# Altium integrated library Analog Devices Data Converters Analog-to-Digital Converters.IntLib: 2400 symbols (part 146 of 338)
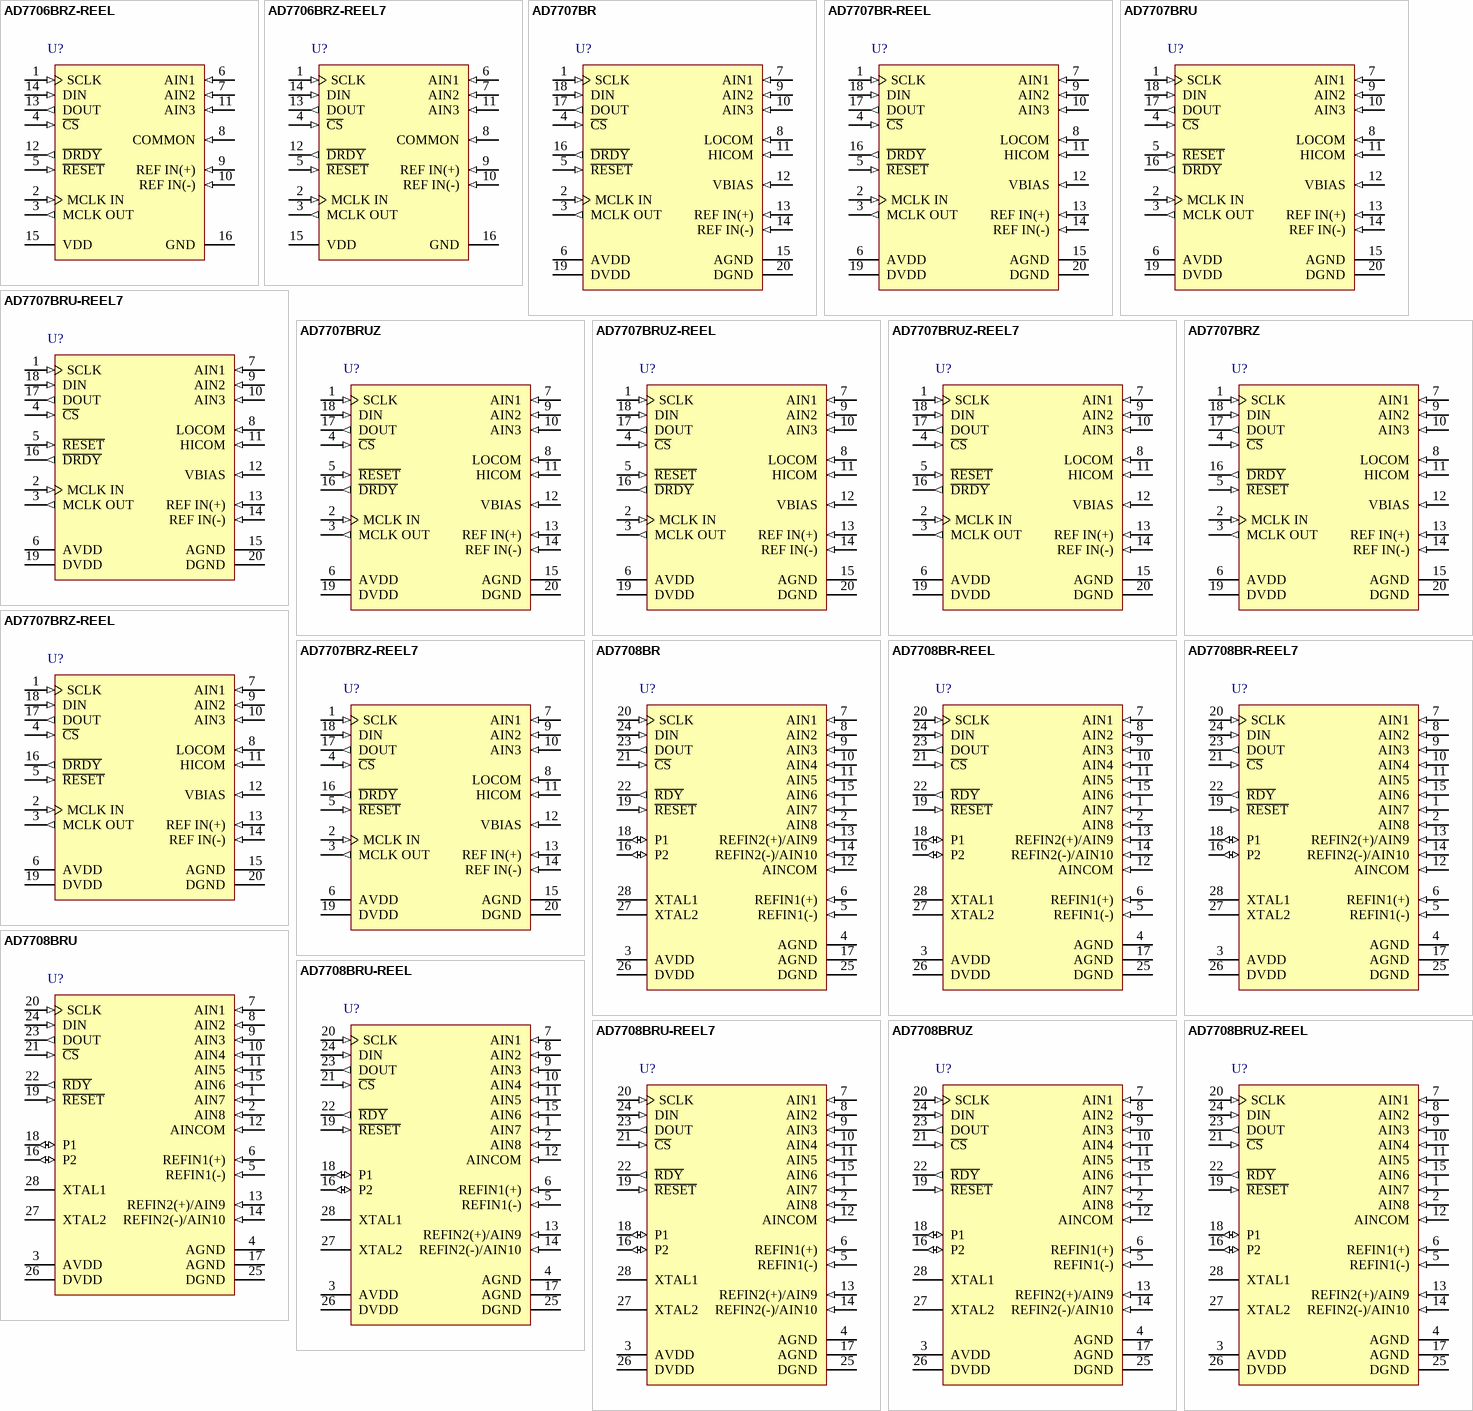
[diagram p338: symbols AD7706BRZ-REEL to AD7708BRUZ-REEL]

## AD7707BRZ
designator U?
3 Channel 16-Bit Sigma-Delta Analog-to-Digital Converter with Serial, SPI Interface, 1 mW, +/-10 V Input Range, 3 V / 5 V, 500SPS, -40 to +85 degC, RW-20, Pb-Free, Tube; Part Number: AD7707; Manufacturer: Analog Devices; Resolution (Bits): 16; Channels: 3; Throughput Rate (SPS): 500; Interface: Ser, SPI; DatasheetVersion: Rev.B; PackageVersion: 060706-A; PackageReference: RW-20; PackageDescription: 20-Lead Standard Small Outline Package [SOIC_W] Wide Body; RoHS: Y; Packing: Tube; Mounting Technology: Surface Mount; Code_JEDEC: MS-013-AC; ComponentLink1Description: Manufacturer URL; ComponentLink1URL: http://www.analog.com/en/index.html; ComponentLink2Description: Datasheet; ComponentLink2URL: http://www.analog.com/static/imported-files/data_sheets/AD7707.pdf; ComponentLink3Description: Package Specification; ComponentLink3URL: http://www.analog.com/static/imported-files/packages/233848RW_20.pdf; ComponentLink4Description: Product URL; ComponentLink4URL: http://www.analog.com/en/analog-to-digital-converters/ad-converters/ad7707/products/product.html
footprint RW-20_N (SOIC, 20-Leads, Body 12.8x7.5mm, Pitch 1.27mm, IPC Medium Density)
footprint RW-20_L (SOIC, 20-Leads, Body 12.8x7.5mm, Pitch 1.27mm, IPC High Density)
footprint RW-20_M (SOIC, 20-Leads, Body 12.8x7.5mm, Pitch 1.27mm, IPC Low Density)
pins: 1 SCLK (in) "Serial Clock, Schmitt-Triggered Logic Input. An external serial clock is applied to this input to access serial data from the AD7707. This serial clock can be a continuous clock with all data transmitted in a continuous (See Datasheet)", 2 MCLK IN (in) "Master Clock Signal for the Device. This can be provided in the form of a crystal/resonator or external clock. A crystal/resonator can be tied across the MCLK IN and MCLK OUT pins. Alternatively, the MCLK IN pin can be (See Datasheet)", 3 MCLK OUT (out) "When the master clock for the device is a crystal/resonator, the crystal/resonator is connected between MCLK IN and MCLK OUT. If an external clock is applied to MCLK IN, MCLK OUT provides an inverted clock signal. This clock (See Datasheet)", 4 ~{CS} (in) "Chip Select. This pin is an active low logic input used to select the AD7707. With this input hard-wired low, the AD7707 can operate in its 3-wire interface mode with SCLK, DIN, and DOUT used to interface to the device. C\S\ (See Datasheet)", 5 ~{RESET} (in) "Logic Input. Active low input that resets the control logic, interface logic, calibration coefficients, digital filter, and analog modulator of the part to power-on status.", 6 AVDD (power) "Analog Supply Voltage, 2.7 V to 5.25 V Operation.", 7 AIN1 (in) "Low Level Analog Input Channel 1. This is used as a pseudo differential input with respect to LOCOM.", 8 LOCOM (in) "Common Input for Low Level Input Channels. Analog inputs on AIN1 and AIN2 must be referenced to this input.", 9 AIN2 (in) "Low Level Analog Input Channel 2. This is used as a pseudo differential input with respect to LOCOM.", 10 AIN3 (in) "Single-Ended High Level Analog Input Channel with respect to HICOM.", 11 HICOM (in) "Common Input for High Level Input Channel. Analog input on AIN3 must be referenced to this input.", 12 VBIAS (in) "VBIAS is used to level shift the high level input channel signal. This signal is used to ensure that the AIN(+) and AIN(-) signals seen by the internal modulator are within its common-mode range. VBIAS is normally connected (See Datasheet)", 13 REF IN(+) (in) "Reference Input. Positive input of the differential reference input to the AD7707. The reference input is differential with the provision that REF IN(+) must be greater than REF IN(-). REF IN(+) can lie anywhere between AVDD (See Datasheet)", 14 REF IN(-) (in) "Reference Input. Negative input of the differential reference input to the AD7707. The REF IN(-) can lie anywhere between AVDD and AGND provided that REF IN(+) is greater than REF IN(-).", 15 AGND (power) "Analog Ground. Ground reference point for the AD7707’s internal analog circuitry.", 16 ~{DRDY} (out) "Logic Output. A logic low on this output indicates that a new output word is available from the AD7707 data register. The D\R\D\Y \pin returns high upon completion of a read operation of a full output word. If no data read (See Datasheet)", 17 DOUT (out) "Serial Data Output with Serial Data Being Read from the Output Shift Register on the Part. This output shift register can contain information from the setup register, communications register, clock register, or data (See Datasheet)", 18 DIN (in) "Serial Data Input with Serial Data Being Written to the Input Shift Register on the Part. Data from this input shift register is transferred to the setup register, clock register, or communications register, depending on the (See Datasheet)", 19 DVDD (power) "Digital Supply Voltage, 2.7 V to 5.25 V Operation.", 20 DGND (power) "Ground Reference Point for the AD7707’s Internal Digital Circuitry."

## AD7707BRZ-REEL
designator U?
3 Channel 16-Bit Sigma-Delta Analog-to-Digital Converter with Serial, SPI Interface, 1 mW, +/-10 V Input Range, 3 V / 5 V, 500SPS, -40 to +85 degC, RW-20, Pb-Free, Reel; Part Number: AD7707; Manufacturer: Analog Devices; Resolution (Bits): 16; Channels: 3; Throughput Rate (SPS): 500; Interface: Ser, SPI; DatasheetVersion: Rev.B; PackageVersion: 060706-A; PackageReference: RW-20; PackageDescription: 20-Lead Standard Small Outline Package [SOIC_W] Wide Body; RoHS: Y; Packing: Reel; Mounting Technology: Surface Mount; Code_JEDEC: MS-013-AC; ComponentLink1Description: Manufacturer URL; ComponentLink1URL: http://www.analog.com/en/index.html; ComponentLink2Description: Datasheet; ComponentLink2URL: http://www.analog.com/static/imported-files/data_sheets/AD7707.pdf; ComponentLink3Description: Package Specification; ComponentLink3URL: http://www.analog.com/static/imported-files/packages/233848RW_20.pdf; ComponentLink4Description: Product URL; ComponentLink4URL: http://www.analog.com/en/analog-to-digital-converters/ad-converters/ad7707/products/product.html
footprint RW-20_N (SOIC, 20-Leads, Body 12.8x7.5mm, Pitch 1.27mm, IPC Medium Density)
footprint RW-20_L (SOIC, 20-Leads, Body 12.8x7.5mm, Pitch 1.27mm, IPC High Density)
footprint RW-20_M (SOIC, 20-Leads, Body 12.8x7.5mm, Pitch 1.27mm, IPC Low Density)
pins: 1 SCLK (in) "Serial Clock, Schmitt-Triggered Logic Input. An external serial clock is applied to this input to access serial data from the AD7707. This serial clock can be a continuous clock with all data transmitted in a continuous (See Datasheet)", 2 MCLK IN (in) "Master Clock Signal for the Device. This can be provided in the form of a crystal/resonator or external clock. A crystal/resonator can be tied across the MCLK IN and MCLK OUT pins. Alternatively, the MCLK IN pin can be (See Datasheet)", 3 MCLK OUT (out) "When the master clock for the device is a crystal/resonator, the crystal/resonator is connected between MCLK IN and MCLK OUT. If an external clock is applied to MCLK IN, MCLK OUT provides an inverted clock signal. This clock (See Datasheet)", 4 ~{CS} (in) "Chip Select. This pin is an active low logic input used to select the AD7707. With this input hard-wired low, the AD7707 can operate in its 3-wire interface mode with SCLK, DIN, and DOUT used to interface to the device. C\S\ (See Datasheet)", 5 ~{RESET} (in) "Logic Input. Active low input that resets the control logic, interface logic, calibration coefficients, digital filter, and analog modulator of the part to power-on status.", 6 AVDD (power) "Analog Supply Voltage, 2.7 V to 5.25 V Operation.", 7 AIN1 (in) "Low Level Analog Input Channel 1. This is used as a pseudo differential input with respect to LOCOM.", 8 LOCOM (in) "Common Input for Low Level Input Channels. Analog inputs on AIN1 and AIN2 must be referenced to this input.", 9 AIN2 (in) "Low Level Analog Input Channel 2. This is used as a pseudo differential input with respect to LOCOM.", 10 AIN3 (in) "Single-Ended High Level Analog Input Channel with respect to HICOM.", 11 HICOM (in) "Common Input for High Level Input Channel. Analog input on AIN3 must be referenced to this input.", 12 VBIAS (in) "VBIAS is used to level shift the high level input channel signal. This signal is used to ensure that the AIN(+) and AIN(-) signals seen by the internal modulator are within its common-mode range. VBIAS is normally connected (See Datasheet)", 13 REF IN(+) (in) "Reference Input. Positive input of the differential reference input to the AD7707. The reference input is differential with the provision that REF IN(+) must be greater than REF IN(-). REF IN(+) can lie anywhere between AVDD (See Datasheet)", 14 REF IN(-) (in) "Reference Input. Negative input of the differential reference input to the AD7707. The REF IN(-) can lie anywhere between AVDD and AGND provided that REF IN(+) is greater than REF IN(-).", 15 AGND (power) "Analog Ground. Ground reference point for the AD7707’s internal analog circuitry.", 16 ~{DRDY} (out) "Logic Output. A logic low on this output indicates that a new output word is available from the AD7707 data register. The D\R\D\Y \pin returns high upon completion of a read operation of a full output word. If no data read (See Datasheet)", 17 DOUT (out) "Serial Data Output with Serial Data Being Read from the Output Shift Register on the Part. This output shift register can contain information from the setup register, communications register, clock register, or data (See Datasheet)", 18 DIN (in) "Serial Data Input with Serial Data Being Written to the Input Shift Register on the Part. Data from this input shift register is transferred to the setup register, clock register, or communications register, depending on the (See Datasheet)", 19 DVDD (power) "Digital Supply Voltage, 2.7 V to 5.25 V Operation.", 20 DGND (power) "Ground Reference Point for the AD7707’s Internal Digital Circuitry."